# Altium footprint library pot.PCBLIB: 55 footprints (part 1 of 4)
Each footprint in its own frame and in the unit in brackets; x right, y up, seen from the top. Pads: shape width x height; smd on the part's side, far side on the other; paste and mask are expansions set on the pad; w line width, h text height; cw(c..) or ccw(c..) is an arc to the next point about the centre after c.
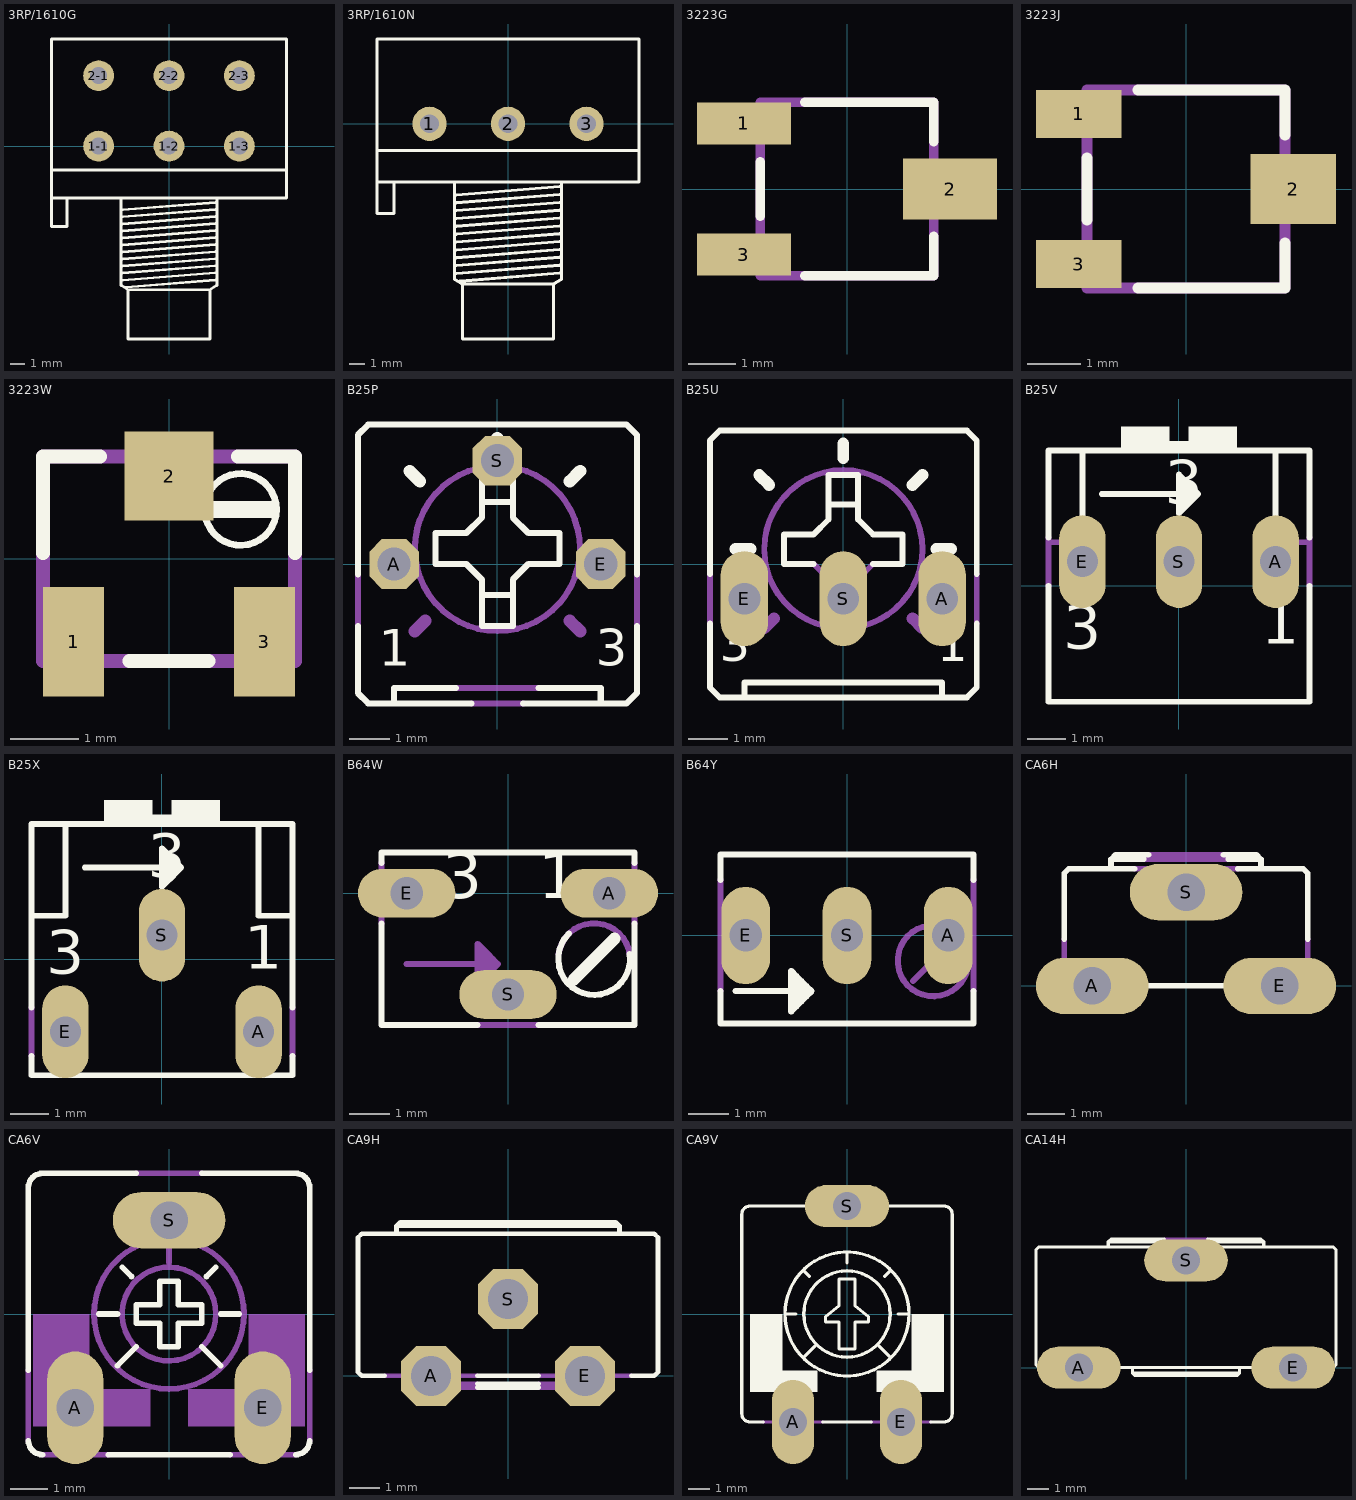
[diagram p0: the footprints below, top view; thin cyan lines are the x and y axes]

## 3RP/1610G [mil]
pads (6):
  round 86 hole 47.24: 1-1(-196.85,0) 1-2(0,0) 1-3(196.85,0) 2-1(-196.85,196.85) 2-2(0,196.85) 2-3(196.85,196.85)
Top Overlay:
  lines w8: -328.74,-66.93 328.74,-66.93 ; -285.43,-149.61 -285.43,-224.41 -328.74,-224.41 -328.74,-145.67 ; -133.86,-149.61 -133.86,-389.76 -114.17,-401.57 ; -129.92,-375 129.92,-354.33 ; -129.92,-355.32 129.92,-334.65 ; -129.92,-335.63 129.92,-314.96 ; -129.92,-315.94 129.92,-295.28 ; -129.92,-296.26 129.92,-275.59 ; -129.92,-276.57 129.92,-255.91 ; -129.92,-256.89 129.92,-236.22 ; -129.92,-237.2 129.92,-216.54 ; -129.92,-217.52 129.92,-196.85 ; -129.92,-197.83 129.92,-177.17 ; -129.92,-178.15 129.92,-157.48 ; -121.06,-394.69 129.92,-374.02 ; 133.86,-149.61 133.86,-389.76 114.17,-401.57 ; -328.74,-145.67 328.74,-145.67 328.74,299.21 -328.74,299.21 -328.74,-145.67 ; -114.17,-401.57 -114.17,-539.37 114.17,-539.37 114.17,-401.57 ; -114.17,-401.57 114.17,-401.57

## 3RP/1610N [mil]
pads (3):
  round 86 hole 47.24: 1(-196.85,0) 2(0,0) 3(196.85,0)
Top Overlay:
  lines w8: -328.74,-66.93 328.74,-66.93 ; -285.43,-149.61 -285.43,-224.41 -328.74,-224.41 -328.74,-145.67 ; -133.86,-149.61 -133.86,-389.76 -114.17,-401.57 ; -129.92,-375 129.92,-354.33 ; -129.92,-355.32 129.92,-334.65 ; -129.92,-335.63 129.92,-314.96 ; -129.92,-315.94 129.92,-295.28 ; -129.92,-296.26 129.92,-275.59 ; -129.92,-276.57 129.92,-255.91 ; -129.92,-256.89 129.92,-236.22 ; -129.92,-237.2 129.92,-216.54 ; -129.92,-217.52 129.92,-196.85 ; -129.92,-197.83 129.92,-177.17 ; -129.92,-178.15 129.92,-157.48 ; -121.06,-394.69 129.92,-374.02 ; 133.86,-149.61 133.86,-389.76 114.17,-401.57 ; -328.74,-145.67 328.74,-145.67 328.74,212.6 -328.74,212.6 -328.74,-145.67 ; -114.17,-401.57 -114.17,-539.37 114.17,-539.37 114.17,-401.57 ; -114.17,-401.57 114.17,-401.57

## 3223G [mm]
pads (3):
  rect 2x0.9 smd: 1(-2.2,1.4) 3(-2.2,-1.4)
  rect 2x1.3 smd: 2(2.2,0)
Top Overlay:
  lines w0.203: -1.85,-0.58 -1.85,0.58 ; -0.897,-1.85 1.85,-1.85 1.85,-1.008 ; -0.897,1.85 1.85,1.85 1.85,1.008
Mechanical 16:
  rectangle: -2.65,1.075 -1.925,1.625
  rectangle: -2.65,-1.625 -1.925,-1.075
  rectangle: 1.925,-0.5 2.625,0.5
  lines w0.203: -1.85,-1.85 1.85,-1.85 1.85,1.85 -1.85,1.85 -1.85,-1.85

## 3223J [mm]
pads (3):
  rect 1.6x0.9 smd: 1(-2,1.4) 3(-2,-1.4)
  rect 1.6x1.3 smd: 2(2,0)
Top Overlay:
  lines w0.203: -1.85,-0.58 -1.85,0.58 ; -0.897,-1.85 1.85,-1.85 1.85,-1.008 ; -0.897,1.85 1.85,1.85 1.85,1.008
Mechanical 16:
  lines w0.203: -1.85,-1.85 1.85,-1.85 1.85,1.85 -1.85,1.85 -1.85,-1.85

## 3223W [mil]
pads (3):
  rect 35.43x62.99 smd: 1(-55.12,-47.83) 3(55.12,-47.83)
  rect 51.18x51.18 smd: 2(0,47.83)
Top Overlay:
  circle w4: c41.34,28.54 r20.69
  rectangle: 21.65,23.62 61.02,33.46
  lines w8: -72.83,3.44 -72.83,59.06 -39.67,59.06 ; -22.83,-59.06 22.83,-59.06 ; 39.67,59.06 72.83,59.06 72.83,3.44
Mechanical 16:
  lines w8: -72.83,-59.06 72.83,-59.06 72.83,59.06 -72.83,59.06 -72.83,-59.06

## B25P [mil]
pads (3):
  oct 48x48 hole 32: A(-100,0) E(100,0) S(0,100)
Top Overlay:
  lines w6: -135,-60 -135,-125 -125,-135 -100,-135 ; -135,-10 -135,125 -125,135 125,135 135,125 135,-10 ; -40,-120 -100,-120 -100,-135 ; -25,-135 -100,-135 ; 25,-135 100,-135 ; 40,-120 100,-120 100,-135 ; 135,-60 135,-125 125,-135 100,-135 ; -15,-30 -15,-15 -30,0 -60,0 -60,30 -30,30 -15,45 -15,60 ; -15,-30 15,-30 ; -15,-30 -15,-60 15,-60 15,-30 ; -15,60 -15,90 15,90 15,60 ; -15,60 15,60 ; 15,-30 15,-15 30,0 60,0 60,30 30,30 15,45 15,60
  lines w12: -109,15 -94,15 ; -85,90 -75,80 ; 0,107 0,122 ; 70,80 80,90 ; 94,15 109,15
  text "3" at 95,-110 h60.45
  text "1" at -115,-110 h60.45
Mechanical 16:
  circle w6: c0,15 r80
  lines w6: -135,-60 -135,-10 ; -40,-120 40,-120 ; -25,-135 25,-135 ; 135,-60 135,-10
  lines w12: -80,-65 -70,-55 ; 70,-55 80,-65

## B25U [mil]
pads (3):
  oval 48x96 hole 32: A(100,-35) E(-100,-35) S(0,-35)
Top Overlay:
  lines w6: -135,-60 -135,-125 -125,-135 -100,-135 ; -135,-10 -135,125 -125,135 125,135 135,125 135,-10 ; -30,0 -60,0 -60,30 -30,30 -15,45 -15,60 ; 30,0 60,0 60,30 30,30 15,45 15,60 ; 100,-135 100,-120 -100,-120 -100,-135 ; 135,-60 135,-125 125,-135 -100,-135 ; -15,60 -15,90 15,90 15,60 ; -15,60 15,60
  lines w12: -109,15 -94,15 ; -85,90 -75,80 ; 0,107 0,122 ; 70,80 80,90 ; 94,15 109,15
  text "3" at -125,-110 h60.45
  text "1" at 95,-110 h60.45
Mechanical 16:
  circle w6: c0,15 r80
  lines w6: -135,-60 -135,-10 ; -30,0 -15,-15 -15,-30 ; 30,0 15,-15 15,-30 ; 135,-60 135,-10 ; -15,-30 15,-30 ; -15,-30 -15,-60 15,-60 15,-30
  lines w12: -80,-65 -70,-55 ; 70,-55 80,-65

## B25V [mil]
pads (3):
  oval 48x96 hole 32: A(100,25) E(-100,25) S(0,25)
Top Overlay:
  rectangle: -60,140 -10,165
  rectangle: 10,140 60,165
  rectangle: -10,140 10,150
  lines w6: -135,0 -135,-120 135,-120 135,0 ; -135,50 -135,140 -100,140 ; -100,70 -100,140 ; -80,95 5,95 ; 100,70 100,140 ; 135,50 135,140 100,140 ; -100,140 100,140 ; 5,80 10,85 ; 5,80 5,95 ; 5,80 0,75 0,115 5,110 ; 5,95 20,95 ; 5,95 5,110 ; 5,110 10,105 ; 10,85 10,105 ; 10,85 15,90 ; 10,105 15,100 ; 15,90 20,95 ; 15,90 15,100 ; 15,100 20,95
  text "3" at -120,-80 h77.5
  text "1" at 85,-75 h77.5
  text "3" at -15,70 h77.5
Mechanical 16:
  lines w6: -135,0 -135,50 ; -135,45 -100,45 -100,70 ; 100,70 100,45 135,45 ; 135,0 135,50

## B25X [mil]
pads (3):
  oval 48x96 hole 32: A(100,-75) E(-100,-75) S(0,25)
Top Overlay:
  rectangle: -60,140 -10,165
  rectangle: 10,140 60,165
  rectangle: -10,140 10,150
  lines w6: -135,-100 -135,-120 135,-120 135,-100 ; -135,-50 -135,45 ; -80,95 5,95 ; 135,-50 135,45 ; -135,45 -100,45 -100,140 ; -135,45 -135,140 -100,140 ; -100,140 100,140 ; 5,80 10,85 ; 5,80 5,95 ; 5,80 0,75 0,115 5,110 ; 5,95 20,95 ; 5,95 5,110 ; 5,110 10,105 ; 10,85 10,105 ; 10,85 15,90 ; 10,105 15,100 ; 15,90 20,95 ; 15,90 15,100 ; 15,100 20,95 ; 100,140 135,140 135,45 ; 100,140 100,45 135,45
  text "3" at -120,-30 h77.5
  text "1" at 85,-25 h77.5
  text "3" at -15,70 h77.5
Mechanical 16:
  lines w6: -135,-100 -135,-50 ; 135,-100 135,-50

## B64W [mil]
pads (3):
  oval 96x48 hole 32: A(100,0) E(-100,0) S(0,-100)
Top Overlay:
  lines w6: -125,-30 -125,-130 -30,-130 ; -125,30 -125,40 125,40 125,30 ; 30,-130 125,-130 125,-30 ; 60,-40 ccw(c85,-65) 120,-60
  lines w12: 65,-85 105,-45
  text "3" at -65,-20 h77.5
  text "1" at 30,-20 h77.5
Mechanical 16:
  lines w6: -125,-30 -125,30 ; -100,-70 -25,-70 ; -30,-130 30,-130 ; 50,-60 cw(c85,-65) 120,-60 ; 125,-30 125,30 ; -25,-85 -20,-80 ; -25,-85 -25,-70 ; -25,-85 -30,-90 -30,-50 -25,-55 ; -25,-70 -10,-70 ; -25,-70 -25,-55 ; -25,-55 -20,-60 ; -20,-80 -20,-60 ; -20,-80 -15,-75 ; -20,-60 -15,-65 ; -15,-75 -10,-70 ; -15,-75 -15,-65 ; -15,-65 -10,-70
  text "3" at -5,-95 h77.5

## B64Y [mil]
pads (3):
  oval 48x96 hole 32: A(100,0) E(-100,0) S(0,0)
Top Overlay:
  lines w6: -125,-55 -125,-87 125,-87 125,-55 ; -125,55 -125,80 125,80 125,55 ; -110,-55 -50,-55 ; -50,-70 -45,-65 ; -50,-70 -50,-55 ; -50,-70 -55,-75 -55,-35 -50,-40 ; -50,-55 -35,-55 ; -50,-55 -50,-40 ; -50,-40 -45,-45 ; -45,-65 -45,-45 ; -45,-65 -40,-60 ; -45,-45 -40,-50 ; -40,-60 -35,-55 ; -40,-60 -40,-50 ; -40,-50 -35,-55
Mechanical 16:
  circle w6: c85,-25 r35
  lines w6: -125,-55 -125,55 ; 65,-45 105,-5 ; 125,-55 125,55
  text "1" at 80,20 h77.5
  text "3" at -80,20 h77.5

## CA6H [mil]
pads (3):
  oval 120x60 hole 40: A(-100,0) E(100,0) S(0,100)
Top Overlay:
  lines w6: -130,50 -130,120 -125,125 -80,125 ; -55,125 -80,125 ; -45,0 45,0 ; -45,135 -80,135 ; -40,140 -75,140 -80,135 ; 40,140 75,140 80,135 ; 45,135 80,135 ; 55,125 80,125 ; 130,50 130,120 125,125 80,125 ; -80,125 -80,135 ; 80,125 80,135
Mechanical 16:
  lines w6: -130,50 -130,5 -125,0 -45,0 ; -55,125 55,125 ; -45,135 45,135 ; -40,140 40,140 ; 45,0 125,0 130,5 130,50

## CA6V [mil]
pads (3):
  oval 60x120 hole 40: A(-100,-100) E(100,-100)
  oval 120x60 hole 40: S(0,100)
Top Overlay:
  lines w6: -150,-135 ccw(c-135,-135) -135,-150 ; -150,-60 -150,135 cw(c-135,135) -135,150 -35,150 ; -75,0 -55,0 ; -65,-150 65,-150 ; -55,-55 -35,-35 ; -50,50 -40,40 ; 35,-35 55,-55 ; 35,150 135,150 cw(c135,135) 150,135 150,-60 ; 40,40 50,50 ; 55,0 75,0 ; 135,-150 ccw(c135,-135) 150,-135 ; -35,-10 -10,-10 -10,-35 10,-35 10,-10 35,-10 35,10 10,10 10,35 -10,35 -10,10 -35,10 -35,-10
Mechanical 16:
  circle w6: c0,0 r80
  circle w6: c0,0 r50
  rectangle: 20,-120 145,-80
  rectangle: 85,-105 145,0
  rectangle: -145,-105 -85,0
  rectangle: -145,-120 -20,-80
  rectangle: 75,-150 125,-120
  rectangle: -125,-150 -75,-120
  lines w6: -150,-135 -150,-60 ; -135,-150 -65,-150 ; -35,150 35,150 ; 0,55 0,75 ; 65,-150 135,-150 ; 150,-135 150,-60

## CA9H [mil]
pads (3):
  oct 78x78 hole 52: A(-100,0) E(100,0) S(0,100)
Top Overlay:
  lines w6: -160,0 -190,0 -195,5 -195,180 -190,185 -145,185 ; -40,-15 40,-15 ; -40,-10 40,-10 ; -40,0 40,0 ; 160,0 190,0 195,5 195,180 190,185 145,185 ; -145,185 -145,195 ; -145,185 145,185 ; -145,195 -140,200 140,200 145,195 ; -145,195 145,195 ; 145,185 145,195
Mechanical 16:
  lines w6: -160,0 -100,0 ; -40,-15 -95,-15 -100,-10 ; -40,-10 -100,-10 ; -40,0 -100,0 ; 40,-15 95,-15 100,-10 ; 40,-10 100,-10 ; 40,0 100,0 ; 160,0 100,0 ; -100,-10 -100,0 ; 100,-10 100,0

## CA9V [mil]
pads (3):
  oval 78x156 hole 52: A(-100,-200) E(100,-200)
  oval 156x78 hole 52: S(0,200)
Top Overlay:
  circle w6: c0,0 r80
  circle w6: c0,0 r115
  rectangle: 55,-145 180,-105
  rectangle: 120,-105 180,0
  rectangle: -180,-105 -120,0
  rectangle: -180,-145 -55,-105
  lines w6: -155,-200 -180,-200 cw(c-180,-185) -195,-185 -195,185 cw(c-180,185) -180,200 -60,200 ; -115,0 -95,0 ; -80,-80 -60,-60 ; -80,80 -70,70 ; -45,-200 45,-200 ; 0,95 0,115 ; 60,-60 80,-80 ; 60,200 180,200 cw(c180,185) 195,185 195,-185 cw(c180,-185) 180,-200 155,-200 ; 70,70 80,80 ; 95,0 115,0 ; -40,-15 -15,-15 -15,-65 15,-65 15,-15 40,-15 40,-5 15,15 15,65 -15,65 -15,15 -40,-5 -40,-15
Mechanical 16:
  rectangle: -20,200 20,215
  rectangle: 80,-215 120,-145
  rectangle: -120,-215 -80,-145
  lines w6: -155,-200 -45,-200 ; -60,200 60,200 ; 45,-200 155,-200

## CA14H [mil]
pads (3):
  oval 156x78 hole 52: A(-200,0) E(200,0) S(0,200)
Top Overlay:
  lines w6: -255,0 -275,0 -280,5 -280,220 -275,225 -145,225 ; -145,0 -100,0 ; -55,225 -145,225 ; -45,235 -145,235 ; -40,240 -140,240 -145,235 ; 40,240 140,240 145,235 ; 45,235 145,235 ; 55,225 145,225 ; 145,0 100,0 ; 255,0 275,0 280,5 280,220 275,225 145,225 ; -145,225 -145,235 ; -100,-10 -95,-15 95,-15 100,-10 ; -100,-10 -100,0 ; -100,-10 100,-10 ; -100,0 100,0 ; 100,-10 100,0 ; 145,225 145,235
Mechanical 16:
  lines w6: -255,0 -145,0 ; -55,225 55,225 ; -45,235 45,235 ; -40,240 40,240 ; 145,0 255,0